# Altium footprint library TEXASINSTRUMENTS_DCU0008A.PcbLib: 1 footprints
Each footprint in its own frame and in the unit in brackets; x right, y up, seen from the top. Pads: shape width x height; smd on the part's side, far side on the other; paste and mask are expansions set on the pad; w line width, h text height; cw(c..) or ccw(c..) is an arc to the next point about the centre after c.
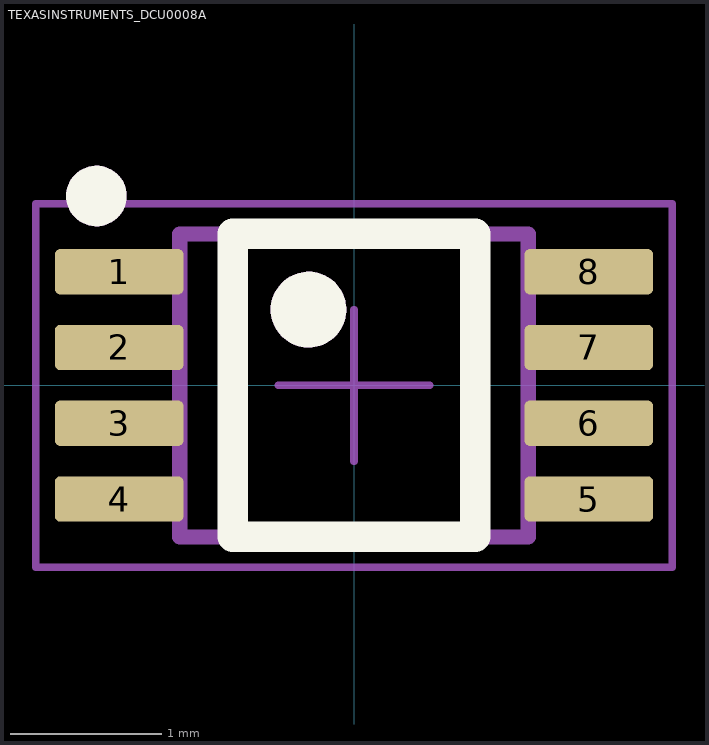
[diagram p0: the footprint, top view; thin cyan lines are the x and y axes]

## TEXASINSTRUMENTS_DCU0008A [mm] "TEXASINSTRUMENTS_DCU0008A"
height 0.9
pads (8):
  rrect25% 0.85x0.3 smd paste+0 mask+0.05: 1(-1.55,0.75) 2(-1.55,0.25) 3(-1.55,-0.25) 4(-1.55,-0.75) 5(1.55,-0.75) 6(1.55,-0.25) 7(1.55,0.25) 8(1.55,0.75)
Top Overlay:
  circle w0.3: c-0.3,0.5 r0.1
  circle w0.2: c-1.7,1.25 r0.1
  lines w0.2: -0.8,-1 0.8,-1 0.8,1 -0.8,1 -0.8,-1
Mechanical 13:
  circle w0.2: c-1.7,1.25 r0.1
  circle w0.3: c-0.3,0.5 r0.1
  lines w0.1: -1.15,-1 1.15,-1 1.15,1 -1.15,1 -1.15,-1
Mechanical 15:
  lines w0.05: -0.5,0 0.5,0 ; 0,-0.5 0,0.5 ; -2.1,-1.2 2.1,-1.2 2.1,1.2 -2.1,1.2 -2.1,-1.2
3D body "TEXASINSTRUMENTS_PKG_DCU0008A.step": height 0.9, standoff 0, extent -1.55,-1 1.55,1